# EAGLE library part 4044XLH208 (library XILINX)
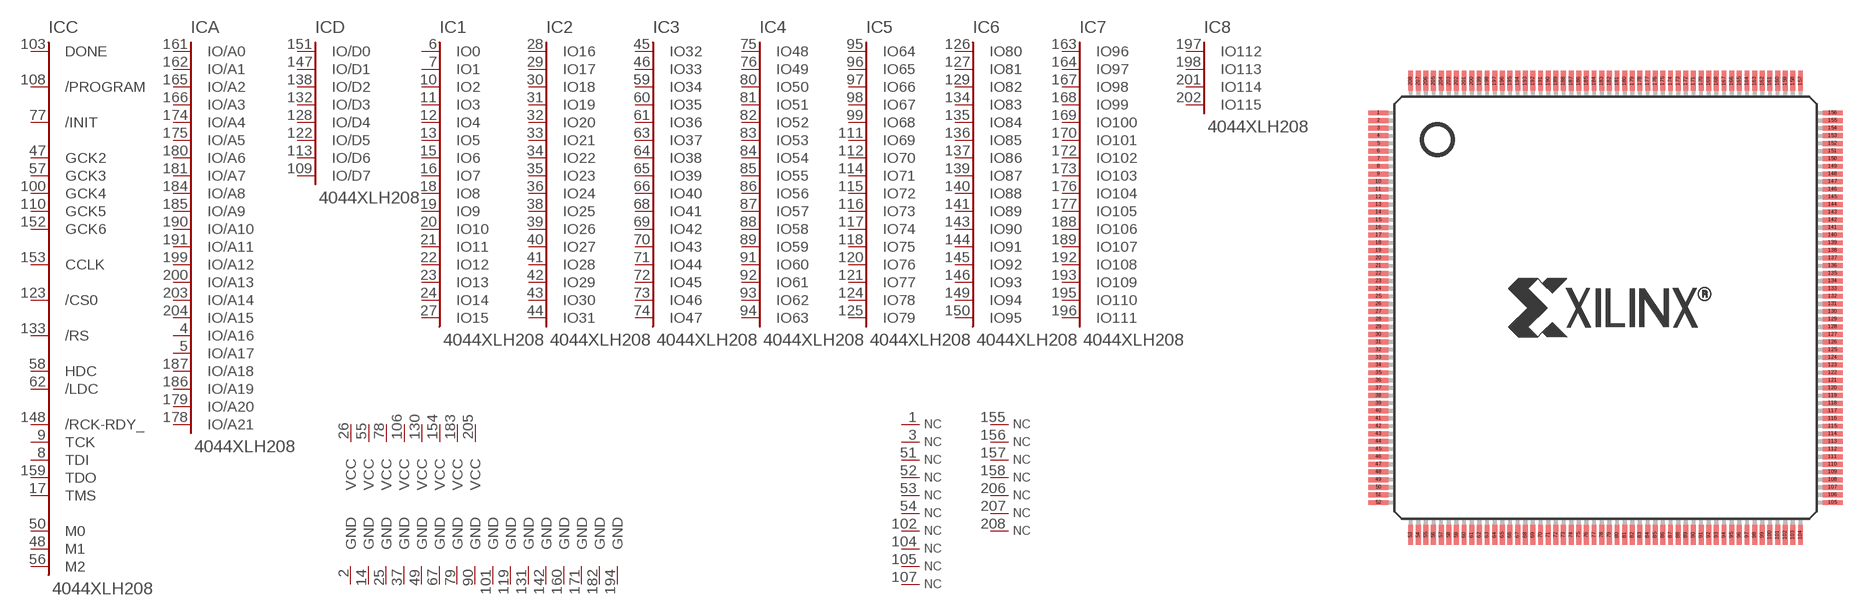
[diagram p53: symbol with the pads of PQ208; footprint PQ208]

Designator prefix IC; gates C=XC4-C-84 A=XC4-A D=XC4-D 1=XC4-IO16 2=XC4-IO32 3=XC4-IO48 4=XC4-IO64 5=XC4-IO80 6=XC4-IO96 7=XC4IO112 V1=VCC V2=VCC V3=VCC V4=VCC V5=VCC V6=VCC V7=VCC V8=VCC G1=GND G2=GND G3=GND G4=GND G5=GND G6=GND G7=GND G8=GND G9=GND G10=GND G11=GND G12=GND G13=GND G14=GND G15=GND G16=GND N1=NC N2=NC N3=NC N4=NC N5=NC N6=NC N7=NC N8=NC N9=NC N10=NC N11=NC N12=NC N13=NC N14=NC N15=NC N16=NC N17=NC 8=XC4IO115

## 4044XLH208  [PQ208]
1  N1:NC  nc
2  G1:GND  pwr
3  N2:NC  nc
4  A:IO/A16
5  A:IO/A17
6  1:IO0
7  1:IO1
8  C:TDI
9  C:TCK
10  1:IO2
11  1:IO3
12  1:IO4
13  1:IO5
14  G2:GND  pwr
15  1:IO6
16  1:IO7
17  C:TMS
18  1:IO8
19  1:IO9
20  1:IO10
21  1:IO11
22  1:IO12
23  1:IO13
24  1:IO14
25  G3:GND  pwr
26  V1:VCC  pwr
27  1:IO15
28  2:IO16
29  2:IO17
30  2:IO18
31  2:IO19
32  2:IO20
33  2:IO21
34  2:IO22
35  2:IO23
36  2:IO24
37  G4:GND  pwr
38  2:IO25
39  2:IO26
40  2:IO27
41  2:IO28
42  2:IO29
43  2:IO30
44  2:IO31
45  3:IO32
46  3:IO33
47  C:GCK2
48  C:M1  out
49  G5:GND  pwr
50  C:M0  in
51  N3:NC  nc
52  N4:NC  nc
53  N5:NC  nc
54  N6:NC  nc
55  V2:VCC  pwr
56  C:M2  in
57  C:GCK3
58  C:HDC
59  3:IO34
60  3:IO35
61  3:IO36
62  C:/LDC
63  3:IO37
64  3:IO38
65  3:IO39
66  3:IO40
67  G6:GND  pwr
68  3:IO41
69  3:IO42
70  3:IO43
71  3:IO44
72  3:IO45
73  3:IO46
74  3:IO47
75  4:IO48
76  4:IO49
77  C:/INIT
78  V3:VCC  pwr
79  G7:GND  pwr
80  4:IO50
81  4:IO51
82  4:IO52
83  4:IO53
84  4:IO54
85  4:IO55
86  4:IO56
87  4:IO57
88  4:IO58
89  4:IO59
90  G8:GND  pwr
91  4:IO60
92  4:IO61
93  4:IO62
94  4:IO63
95  5:IO64
96  5:IO65
97  5:IO66
98  5:IO67
99  5:IO68
100  C:GCK4
101  G9:GND  pwr
102  N7:NC  nc
103  C:DONE
104  N8:NC  nc
105  N9:NC  nc
106  V4:VCC  pwr
107  N10:NC  nc
108  C:/PROGRAM
109  D:IO/D7
110  C:GCK5
111  5:IO69
112  5:IO70
113  D:IO/D6
114  5:IO71
115  5:IO72
116  5:IO73
117  5:IO74
118  5:IO75
119  G10:GND  pwr
120  5:IO76
121  5:IO77
122  D:IO/D5
123  C:/CS0
124  5:IO78
125  5:IO79
126  6:IO80
127  6:IO81
128  D:IO/D4
129  6:IO82
130  V5:VCC  pwr
131  G11:GND  pwr
132  D:IO/D3
133  C:/RS
134  6:IO83
135  6:IO84
136  6:IO85
137  6:IO86
138  D:IO/D2
139  6:IO87
140  6:IO88
141  6:IO89
142  G12:GND  pwr
143  6:IO90
144  6:IO91
145  6:IO92
146  6:IO93
147  D:IO/D1
148  C:/RCK-RDY_
149  6:IO94
150  6:IO95
151  D:IO/D0
152  C:GCK6
153  C:CCLK
154  V6:VCC  pwr
155  N11:NC  nc
156  N12:NC  nc
157  N13:NC  nc
158  N14:NC  nc
159  C:TDO
160  G13:GND  pwr
161  A:IO/A0
162  A:IO/A1
163  7:IO96
164  7:IO97
165  A:IO/A2
166  A:IO/A3
167  7:IO98
168  7:IO99
169  7:IO100
170  7:IO101
171  G14:GND  pwr
172  7:IO102
173  7:IO103
174  A:IO/A4
175  A:IO/A5
176  7:IO104
177  7:IO105
178  A:IO/A21
179  A:IO/A20
180  A:IO/A6
181  A:IO/A7
182  G15:GND  pwr
183  V7:VCC  pwr
184  A:IO/A8
185  A:IO/A9
186  A:IO/A19
187  A:IO/A18
188  7:IO106
189  7:IO107
190  A:IO/A10
191  A:IO/A11
192  7:IO108
193  7:IO109
194  G16:GND  pwr
195  7:IO110
196  7:IO111
197  8:IO112
198  8:IO113
199  A:IO/A12
200  A:IO/A13
201  8:IO114
202  8:IO115
203  A:IO/A14
204  A:IO/A15
205  V8:VCC  pwr
206  N15:NC  nc
207  N16:NC  nc
208  N17:NC  nc

## Footprint PQ208 (pad centres in mm)
smd 1.3 x 0.32: 1 -14.85,12.75; 2 -14.85,12.25; 3 -14.85,11.75; 4 -14.85,11.25; 5 -14.85,10.75; 6 -14.85,10.25; 7 -14.85,9.75; 8 -14.85,9.25; 9 -14.85,8.75; 10 -14.85,8.25; 11 -14.85,7.75; 12 -14.85,7.25; 13 -14.85,6.75; 14 -14.85,6.25; 15 -14.85,5.75; 16 -14.85,5.25; 17 -14.85,4.75; 18 -14.85,4.25; 19 -14.85,3.75; 20 -14.85,3.25; 21 -14.85,2.75; 22 -14.85,2.25; 23 -14.85,1.75; 24 -14.85,1.25; 25 -14.85,0.75; 26 -14.85,0.25; 27 -14.85,-0.25; 28 -14.85,-0.75; 29 -14.85,-1.25; 30 -14.85,-1.75; 31 -14.85,-2.25; 32 -14.85,-2.75; 33 -14.85,-3.25; 34 -14.85,-3.75; 35 -14.85,-4.25; 36 -14.85,-4.75; 37 -14.85,-5.25; 38 -14.85,-5.75; 39 -14.85,-6.25; 40 -14.85,-6.75; 41 -14.85,-7.25; 42 -14.85,-7.75; 43 -14.85,-8.25; 44 -14.85,-8.75; 45 -14.85,-9.25; 46 -14.85,-9.75; 47 -14.85,-10.25; 48 -14.85,-10.75; 49 -14.85,-11.25; 50 -14.85,-11.75; 51 -14.85,-12.25; 52 -14.85,-12.75; 105 14.85,-12.75; 106 14.85,-12.25; 107 14.85,-11.75; 108 14.85,-11.25; 109 14.85,-10.75; 110 14.85,-10.25; 111 14.85,-9.75; 112 14.85,-9.25; 113 14.85,-8.75; 114 14.85,-8.25; 115 14.85,-7.75; 116 14.85,-7.25; 117 14.85,-6.75; 118 14.85,-6.25; 119 14.85,-5.75; 120 14.85,-5.25; 121 14.85,-4.75; 122 14.85,-4.25; 123 14.85,-3.75; 124 14.85,-3.25; 125 14.85,-2.75; 126 14.85,-2.25; 127 14.85,-1.75; 128 14.85,-1.25; 129 14.85,-0.75; 130 14.85,-0.25; 131 14.85,0.25; 132 14.85,0.75; 133 14.85,1.25; 134 14.85,1.75; 135 14.85,2.25; 136 14.85,2.75; 137 14.85,3.25; 138 14.85,3.75; 139 14.85,4.25; 140 14.85,4.75; 141 14.85,5.25; 142 14.85,5.75; 143 14.85,6.25; 144 14.85,6.75; 145 14.85,7.25; 146 14.85,7.75; 147 14.85,8.25; 148 14.85,8.75; 149 14.85,9.25; 150 14.85,9.75; 151 14.85,10.25; 152 14.85,10.75; 153 14.85,11.25; 154 14.85,11.75; 155 14.85,12.25; 156 14.85,12.75
smd 0.32 x 1.3: 53 -12.75,-14.85; 54 -12.25,-14.85; 55 -11.75,-14.85; 56 -11.25,-14.85; 57 -10.75,-14.85; 58 -10.25,-14.85; 59 -9.75,-14.85; 60 -9.25,-14.85; 61 -8.75,-14.85; 62 -8.25,-14.85; 63 -7.75,-14.85; 64 -7.25,-14.85; 65 -6.75,-14.85; 66 -6.25,-14.85; 67 -5.75,-14.85; 68 -5.25,-14.85; 69 -4.75,-14.85; 70 -4.25,-14.85; 71 -3.75,-14.85; 72 -3.25,-14.85; 73 -2.75,-14.85; 74 -2.25,-14.85; 75 -1.75,-14.85; 76 -1.25,-14.85; 77 -0.75,-14.85; 78 -0.25,-14.85; 79 0.25,-14.85; 80 0.75,-14.85; 81 1.25,-14.85; 82 1.75,-14.85; 83 2.25,-14.85; 84 2.75,-14.85; 85 3.25,-14.85; 86 3.75,-14.85; 87 4.25,-14.85; 88 4.75,-14.85; 89 5.25,-14.85; 90 5.75,-14.85; 91 6.25,-14.85; 92 6.75,-14.85; 93 7.25,-14.85; 94 7.75,-14.85; 95 8.25,-14.85; 96 8.75,-14.85; 97 9.25,-14.85; 98 9.75,-14.85; 99 10.25,-14.85; 100 10.75,-14.85; 101 11.25,-14.85; 102 11.75,-14.85; 103 12.25,-14.85; 104 12.75,-14.85; 157 12.75,14.85; 158 12.25,14.85; 159 11.75,14.85; 160 11.25,14.85; 161 10.75,14.85; 162 10.25,14.85; 163 9.75,14.85; 164 9.25,14.85; 165 8.75,14.85; 166 8.25,14.85; 167 7.75,14.85; 168 7.25,14.85; 169 6.75,14.85; 170 6.25,14.85; 171 5.75,14.85; 172 5.25,14.85; 173 4.75,14.85; 174 4.25,14.85; 175 3.75,14.85; 176 3.25,14.85; 177 2.75,14.85; 178 2.25,14.85; 179 1.75,14.85; 180 1.25,14.85; 181 0.75,14.85; 182 0.25,14.85; 183 -0.25,14.85; 184 -0.75,14.85; 185 -1.25,14.85; 186 -1.75,14.85; 187 -2.25,14.85; 188 -2.75,14.85; 189 -3.25,14.85; 190 -3.75,14.85; 191 -4.25,14.85; 192 -4.75,14.85; 193 -5.25,14.85; 194 -5.75,14.85; 195 -6.25,14.85; 196 -6.75,14.85; 197 -7.25,14.85; 198 -7.75,14.85; 199 -8.25,14.85; 200 -8.75,14.85; 201 -9.25,14.85; 202 -9.75,14.85; 203 -10.25,14.85; 204 -10.75,14.85; 205 -11.25,14.85; 206 -11.75,14.85; 207 -12.25,14.85; 208 -12.75,14.85